# Altium schematic symbol library Strain_gauge_Interface.SCHLIB: 22 symbols
Pins are listed as number, name and electrical type; pins without a type are passive.

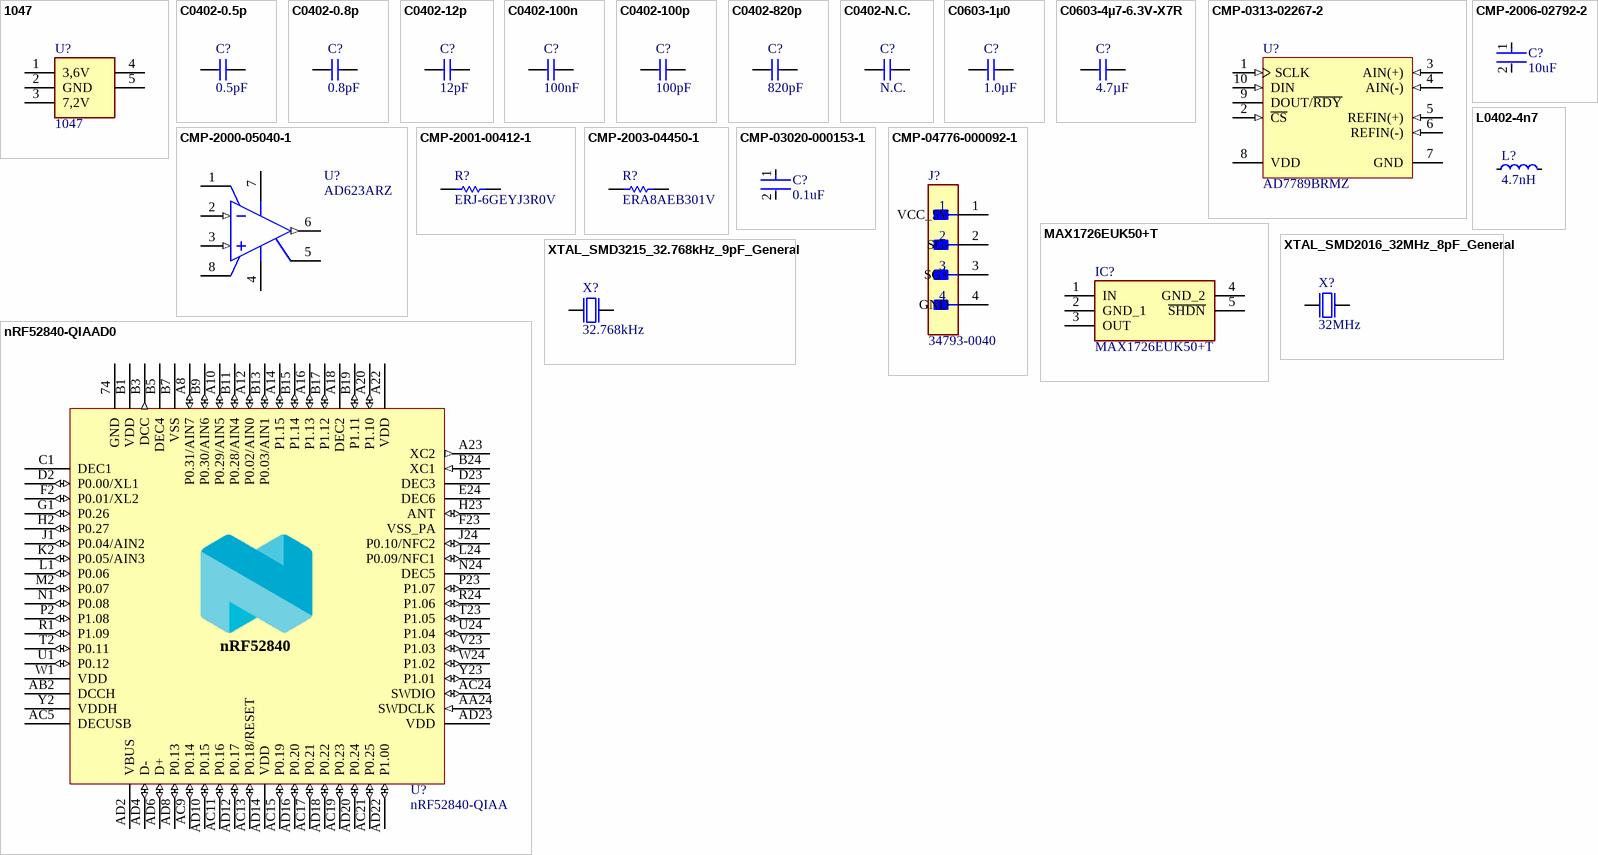
[diagram p0: symbols 1047 to XTAL_SMD3215_32.768kHz_9pF_General]

## 1047
designator U?
Undefined or Miscellaneous; Manufacturer_Name: Keystone Electronics; Description: KEYSTONE - 1047 - BATTERY HOLDER; Datasheet Link: https://www.keyelco.com/product.cfm/product_id/14061; Height: 14.85mm; Manufacturer_Part_Number: 1047; Mouser Part Number: 534-1047; Mouser Price/Stock: https://www.mouser.co.uk/ProductDetail/Keystone-Electronics/1047?qs=up89fPMRNqBQruBm7zqCRQ%3D%3D
footprint 1047
pins: 1 3,6V, 2 GND, 3 7,2V, 4 Gnd, 5 Gnd

## C0402-0.5p
designator C?, comment 0.5pF
Capacitor, NP0, ±10%; Part Number: C0402-0.5p; Note: 50V; LatestRevisionDate: 2017-02-23; Pin Count: 2; Publisher: Nordic Semiconductor; Published: 2009-05-08; Value: 0.5pF; Footprint Doc: 0402
footprint CAPC1005X04L
pins: 1, 2

## C0402-0.8p
designator C?, comment 0.8pF
Capacitor, NP0, ±10%; Part Number: C0402-0.8p; Note: 50V; LatestRevisionDate: 2012-11-21; Pin Count: 2; Publisher: Nordic Semiconductor; Published: 2009-05-08; Value: 0.8pF; Footprint Doc: 0402
footprint CAPC1005X04L
pins: 1, 2

## C0402-12p
designator C?, comment 12pF
Capacitor, NP0, ±2%; Part Number: C0402-12p; Note: 50V; LatestRevisionDate: 2011-05-11; Pin Count: 2; Publisher: Nordic Semiconductor; Published: 2009-05-08; Value: 12pF; Footprint Doc: 0402
footprint CAPC1005X04L
pins: 1, 2

## C0402-100n
designator C?, comment 100nF
Capacitor, X7R, ±10%; Part Number: C0402-100n; Note: 16V; LatestRevisionDate: 2009-11-23; Pin Count: 2; Publisher: Nordic Semiconductor; Published: 2009-05-08; Value: 100nF; Footprint Doc: 0402
footprint CAPC1005X04L
pins: 1, 2

## C0402-100p
designator C?, comment 100pF
Capacitor, NP0, ±5%; Part Number: C0402-100p; Note: 50V; LatestRevisionDate: 2009-05-08; Pin Count: 2; Publisher: Nordic Semiconductor; Published: 2009-05-08; Value: 100pF; Footprint Doc: 0402
footprint CAPC1005X04L
pins: 1, 2

## C0402-820p
designator C?, comment 820pF
Capacitor, NP0, ±5%; Part Number: C0402-820p; Note: 50V; LatestRevisionDate: 2009-05-08; Pin Count: 2; Publisher: Nordic Semiconductor; Published: 2009-05-08; Value: 820pF; Footprint Doc: 0402
footprint CAPC1005X04L
pins: 1, 2

## C0402-N.C.
designator C?, comment N.C.
Not mounted; Part Number: C0402-N.C.; Assembly: Not mounted; LatestRevisionDate: 2009-05-08; Pin Count: 2; Publisher: Nordic Semiconductor; Published: 2009-05-08; Value: N.C.; Footprint Doc: 0402
footprint CAPC1005X04L
pins: 1, 2

## C0603-1µ0
designator C?, comment 1.0µF
Capacitor, X7R, ±10%; Part Number: C0603-1µ0; Note: 16V; LatestRevisionDate: 2013-06-05; Pin Count: 2; Publisher: Nordic Semiconductor; Published: 2009-05-08; Value: 1.0µF; Footprint Doc: 0603
footprint CAPC1608X06L
pins: 1, 2

## C0603-4µ7-6.3V-X7R
designator C?, comment 4.7µF
Capacitor, X7R, ±10%; Part Number: C0603-4µ7-6.3V-X7R; Note: 6.3V; LatestRevisionDate: 2015-06-10; Pin Count: 2; Publisher: Nordic Semiconductor; Published: 2015-06-10; Value: 4.7µF; Footprint Doc: 0603
footprint CAPC1608X06L
pins: 1, 2

## CMP-0313-02267-2
designator U?, comment AD7789BRMZ
Single 24-Bit Low Power Sigma-Delta Analog-to-Digital Converter with Serial, SPI Interface, 16.6SPS, -40 to +105 degC, RM-10, Pb-Free, Tube; Generic Part Number: AD7789; Manufacturer: Analog Devices; Manufacturer Part Number: 46999-0353; Channels: 1; Interface: Ser, SPI; Throughput Rate (SPS): 16.6; Resolution (Bits): 24; Gender: Male; Number of Contacts: 4; Pitch: 3.68mm; Glow Wire Compliant: Compliant; ComponentLink1Description: Manufacturer URL; ComponentLink3Description: Package Specification; RoHS: Y; ComponentLink4URL: http://www.analog.com/en/analog-to-digital-converters/ad-converters/ad7789/products/product.html; PartNumber: AD7789BRMZ; ComponentLink1URL: http://www.analog.com/en/index.html; ComponentLink2URL: http://www.analog.com/static/imported-files/data_sheets/AD7788_7789.pdf; PackageDescription: 10-Lead Mini Small Outline Package [MSOP]; PackageReference: RM-10; ComponentLink4Description: Product URL; DatasheetVersion: Rev.B; Mounting Technology: Surface Mount; ComponentLink2Description: Datasheet; PackageVersion: May-2005; ComponentLink3URL: http://www.analog.com/static/imported-files/packages/PKG_PDF/MSOP%28RM%29/RM_10.pdf; Packing: Tube; Supplier 1: Digi-Key; Category: Connectors; Stock 1: 6500; Pricing 1: 1=0,85000, 10=0,70300, 100=0,58600, 1000=0,46880, 2500=0,42485 (USD); Mount: Cable; Housing Material: Nylon; Housing Color: Natural; Min Operating Temperature: -40°C; Max Operating Temperature: 105°C; Orientation: Straight; Length: 18.6mm; REACH SVHC: No SVHC; ComponentLink5URL: https://datasheet.ciiva.com/30086/050291758-sd-30086280.pdf?src-supplier=Onlinecomponents.com; ComponentLink5Description: https://datasheet.ciiva.com/30086/050291758-sd-30086280.pdf?src-supplier=Onlinecomponents.com; Manufacturer Part Number: AD7789BRMZ
footprint RM-10_M (TSSOP, 10-Leads, Body 3x3mm, Pitch 0.5mm, IPC Low Density)
footprint RM-10_N (TSSOP, 10-Leads, Body 3x3mm, Pitch 0.5mm, IPC Medium Density)
footprint RM-10_L (TSSOP, 10-Leads, Body 3x3mm, Pitch 0.5mm, IPC High Density)
pins: 1 SCLK (in) "Serial Clock Input for Data Transfers to and from the ADC. The SCLK has a Schmitt-triggered input, making the interface suitable for opto-isolated applications. The serial clock can be continuous, with all data transmitted (See Datasheet)", 2 ~{CS} (in) "Chip Select Input. This is an active low logic input used to select the ADC. C\S\ can be used to select the ADC in systems with more than one device on the serial bus or as a frame synchronization signal in communicating (See Datasheet)", 3 AIN(+) (in) "Analog Input. AIN(+) is the positive terminal of the fully differential analog input.", 4 AIN(-) (in) "Analog Input. AIN(-) is the negative terminal of the fully differential analog input.", 5 REFIN(+) (in) "Positive Reference Input. REFIN(+) can lie anywhere between VDD and GND + 0.1 V. The nominal reference voltage (REFIN(+) - REFIN(-)) is 2.5 V, but the part functions with a reference from 0.1 V to VDD.", 6 REFIN(-) (in) "Negative Reference Input. This reference input can lie anywhere between GND and VDD - 0.1 V.", 7 GND (power) "Ground Reference Point.", 8 VDD (power) "Supply Voltage. 3 V or 5 V nominal.", 9 DOUT/~{RDY} (hiz) "The DOUT/R\D\Y\ falling edge can be used as an interrupt to a processor, indicating that valid data is available. With an external serial clock, the data can be read using the DOUT/R\D\Y\ pin. With C\S\ low, the data/control (See Datasheet)", 10 DIN (in) "Serial Data Input to the Input Shift Register on the ADC. Data in this shift register is transferred to the control registers within the ADC; the register selection bits of the communications register identify the (See Datasheet)"

## CMP-2000-05040-1
designator U?, comment AD623ARZ
Single-Supply, Rail-to-Rail, Low Cost Instrumentation Amplifier, 800 KHz, -40 to 85 degC, 8-Pin SOIC, RoHS, Tube; Manufacturer: Analog Devices; EDA / CAD Models: DownloadfromAcceleratedDesigns; PCN Design/Specification: AD623PolymideThickness02/Oct/2013AD623PolymideThickness15/Oct/2013; -3db Bandwidth: 800kHz; Voltage - Supply, Single/Dual (±): 2.7V~12V,±2.5V~6V; Current - Input Bias: 17nA; Voltage - Input Offset: 25µV; Slew Rate: 0.3V/µs; Current - Supply: 375µA; Mfg Application Notes: Electrocardiogram(ECG)Solutions; Number of Circuits: 1; Product Training Modules: InstrumentationAmplifiersPerformanceCommonPhotodiodeOp-AmpCircuitProblemsandSolutionsIndirectCurrentFeedbackInstrumentationAmplifierApplicationsGuide; Manufacturer URL: http://www.analog.com/; Packaging: Tube; Mounting Type: SurfaceMount; Output Type: Rail-to-Rail; Gain Bandwidth Product: -; Datasheet URL: https://datasheet.ciiva.com/20167/82-1224-20167284.pdf; Current - Output / Channel: -; Standard Package: 98; Supplier Device Package: 8-SOIC; Amplifier Type: Instrumentation; Datasheet Version: Rev. D, 07/2008; Family: Linear-Amplifiers-Instrumentation,OPAmps,BufferAmps; Online Catalog: Instrumentation; Operating Temperature: -40degC~85degC; Category: IntegratedCircuits(ICs); Package / Case: 8-SOIC(0.154",3.90mmWidth); Series: -; Manufacturer Part Number: AD623ARZ
footprint ADI-AD623ARZ-8_M (SOIC, 8-Leads, Body 5x4mm, Pitch 1.27mm, IPC Low Density)
footprint ADI-AD623ARZ-8_N (SOIC, 8-Leads, Body 5x4mm, Pitch 1.27mm, IPC Medium Density)
footprint ADI-AD623ARZ-8_L (SOIC, 8-Leads, Body 5x4mm, Pitch 1.27mm, IPC High Density)
pins: 1 -RG, 2 -IN (in), 3 +IN (in), 4 -VS (power), 5 REF (power), 6 OUTPUT (out), 7 +VS (power), 8 +RG

## CMP-2001-00412-1
designator R?, comment ERJ-6GEYJ3R0V
Manufacturer: Panasonic; Part Number: ERJ-6GEYJ3R0V; Manufacturer Part Number: ERJ-6GEYJ3R0V
footprint RESC2013X70X40LL20T20 (Chip Resistor, 2-Leads, Body 2.00x1.25mm, IPC High Density)
footprint RESC2013X70X40ML20T20 (Chip Resistor, 2-Leads, Body 2.00x1.25mm, IPC Low Density)
footprint RESC2013X70X40NL20T20 (Chip Resistor, 2-Leads, Body 2.00x1.25mm, IPC Medium Density)
pins: 1, 2
1 alternate drawing of the same symbol

## CMP-2003-04450-1
designator R?, comment ERA8AEB301V
Manufacturer: Panasonic; Manufacturer Part Number: ERA-8AEB301V; Part Number: ERA8AEB301V
footprint RESC3216X70X50NL20T25 (Chip Resistor, 2-Leads, Body 3.20x1.60mm, IPC Medium Density)
footprint RESC3216X70X50ML20T25 (Chip Resistor, 2-Leads, Body 3.20x1.60mm, IPC Low Density)
footprint RESC3216X70X50LL20T25 (Chip Resistor, 2-Leads, Body 3.20x1.60mm, IPC High Density)
pins: 1, 2
1 alternate drawing of the same symbol

## CMP-2006-02792-2
designator C?, comment 10uF
Chip Multilayer Ceramic Capacitors for General Purpose, 0603, 10uF, X5R, 15%, 20%, 6.3V; Manufacturer: Murata; Manufacturer Part Number: GRM188R60J106ME47D; Packaging: Tape and Reel; Voltage Rating (DC): 6.3V; Width: 0.031inch; Termination: SMD/SMT; Dielectric: X5R; Package Quantity: 4000; Voltage Rating: 6.3V; Capacitance: 10uF; Case/Package: 0603; Min Operating Temperature: -55°C; Voltage: 6.3V; Length: 1.6mm; Thickness: 0.035inch; Lead Free: Lead Free; Depth: 0.8mm; Case Code (Imperial): 0603; Max Operating Temperature: 85°C; Material: Ceramic; Height: 0.8mm; Tolerance: 20%; Mount: Surface Mount; REACH SVHC: No SVHC; Radiation Hardening: No; Case Code (Metric): 1608
footprint FP-GRM188-0_1-e0_2_0_55-IPC_A
footprint FP-GRM188-0_1-e0_2_0_55-IPC_C
footprint FP-GRM188-0_1-e0_2_0_55-MFG
footprint FP-GRM188-0_1-e0_2_0_55-IPC_B
pins: 1, 2

## CMP-03020-000153-1
designator C?, comment 0.1uF
CAP CER 0.1UF 100V X7R 1206; Manufacturer: KEMET; Manufacturer Part Number: C1206C104K1RACTU; Value: 0.10 μF; Tolerance: 0.1; Description: C1206 0.10 μF X7R 10.00% 100 V; Material: Ceramic; Temperature Coefficient: 15%; Automotive Grade: Grade 0; Voltage Rating: 100 V; Automotive: Yes; Ipc Land Pattern Name: CAPC320160X78; Device Class L1: Passive Components; ComponentLink2Description: Datasheet; Temperature Range Low: -55°C; Category: Cap; Octopart: https://octopart.com/c1206c104k1ractu-kemet-89521; Height: 0.88mm; Lead Free: Yes; Digikey Description: CAP CER 0.1UF 100V X7R 1206; Mouser Description: CAP CER 0.1UF 100V X7R 1206; Device Class L3: Ceramic Capacitors; Device Class L2: Capacitors; ComponentLink2URL: https://content.kemet.com/datasheets/KEM_C1007_X8R_ULTRA_150C_SMD.pdf; Temperature Range High: +150°C; Temperature Characteristic: X7R; RoHS: TRUE; Capacitance: 0.10 μF; Package: C1206C-EB; Temperature: -55°C to +150°C
footprint FP-C1206C-EB-MFG
footprint FP-C1206C-EB-IPC_C
footprint FP-C1206C-EB-IPC_B
footprint FP-C1206C-EB-IPC_A
pins: 1, 2

## CMP-04776-000092-1
designator J?, comment 34793-0040
CONN HEADER R/A 4POS 2MM; Manufacturer: Molex; Conn Orientation: Right Angle; Conn Gender: Male; Standoff Height: 0.32mm; Description: Wire-To-Board Connector, Right Angle, Black, Mini50 34793 Series, Through Hole, Header, 4 Contacts; Voltage Rating: 500V; Current Rating: 4A; Number Of Contacts: 4; Device Class L2: Headers and Wire Housings; Number Of Rows: 1; Device Class L3: unset; Device Class L1: Connectors; Manufacturer Part Number: 34793-0040; Category: Conn; Octopart: https://octopart.com/34793-0040-molex-22881898; ComponentLink2URL: http://www.molex.com/webdocs/datasheets/pdf/en-us/0347930040_PCB_HEADERS.pdf; Temperature Range Low: -40°C; Package: 34793-0040; RoHS: TRUE; Mouser Description: Mini50™ Unsealed, Single Row, Right-Angle Header, 4 Circuit, Polarization Option A, Black, Tray; Temperature Range High: +105°C; Pitch: 2mm; Digikey Description: CONN HEADER R/A 4POS 2MM; Lead Free: Yes; Footprint Url: https://www.molex.com/pdm_docs/sd/347930040_sd.pdf; Contact Material: Tin,Nickel; Temperature: -40°C to +105°C; Height: 10.02mm; ComponentLink2Description: Datasheet; Automotive: No
footprint FP-34793-0040-MFG
pins: 1 VCC_5V, 2 SG-, 3 SG+, 4 GND

## L0402-4n7
designator L?, comment 4.7nH
High frequency chip inductor ±5%; Part Number: L0402-4n7; LatestRevisionDate: 2012-09-19; Pin Count: 2; Publisher: Nordic Semiconductor; Published: 2009-05-08; Value: 4.7nH; Note: High frequency chip inductor ±5%; Footprint Doc: 0402
footprint INDC1005X04L
pins: 1, 2

## MAX1726EUK50+T
designator IC?
Integrated Circuit; Manufacturer_Name: Maxim Integrated; Datasheet Link: http://componentsearchengine.com/Datasheets/1/MAX1726EUK50+T.pdf; Height: 1.45mm; Manufacturer_Part_Number: MAX1726EUK50+T; Mouser Part Number: 700-MAX1726EUK50T; Mouser Price/Stock: https://www.mouser.co.uk/ProductDetail/Maxim-Integrated/MAX1726EUK50%2bT?qs=Jw2w9zrI6w%252Bbrdx6zz2S%2FQ%3D%3D
footprint SOT95P280X145-5N
pins: 1 IN, 2 GND_1, 3 OUT, 4 GND_2, 5 ~{SHDN}

## nRF52840-QIAAD0
designator U?, comment nRF52840-QIAA
Multi-protocol Bluetooth Low Energy, IEEE 802.15.4, ANT and 2.4GHz proprietary system-on-chip; Part Number: nRF52840-QIAAD0; Manufacturer: Nordic Semiconductor; LatestRevisionDate: 2018-12-04; Pin Count: 73; Publisher: Nordic Semiconductor; Published: 2018-12-04; Value: nRF52840-QIAA; Note: *; Footprint Doc: AQFN-73; Manufacturer Part Number: nRF52840-QIAAD0
footprint AQFN50P700X700X85_HS-74N
pins: 74 GND (power), A8 P0.31/AIN7 (io), A10 P0.29/AIN5 (io), A12 P0.02/AIN0 (io), A14 P1.15 (io), A16 P1.13 (io), A18 DEC2 (power), A20 P1.10 (io), A22 VDD (power), A23 XC2 (out), AA24 SWDCLK (in), AB2 DCCH (power), AC5 DECUSB (power), AC9 P0.14 (io), AC11 P0.16 (io), AC13 P0.18/RESET (io), AC15 P0.19 (io), AC17 P0.21 (io), AC19 P0.23 (io), AC21 P0.25 (io), AC24 SWDIO (io), AD2 VBUS (power), AD4 D- (io), AD6 D+ (io), AD8 P0.13 (io), AD10 P0.15 (io), AD12 P0.17 (io), AD14 VDD (power), AD16 P0.20 (io), AD18 P0.22 (io), AD20 P0.24 (io), AD22 P1.00 (io), AD23 VDD (power), B1 VDD (power), B3 DCC (out), B5 DEC4 (power), B7 VSS (power), B9 P0.30/AIN6 (io), B11 P0.28/AIN4 (io), B13 P0.03/AIN1 (io), B15 P1.14 (io), B17 P1.12 (io), B19 P1.11 (io), B24 XC1 (in), C1 DEC1 (power), D2 P0.00/XL1 (io), D23 DEC3 (power), E24 DEC6 (power), F2 P0.01/XL2 (io), F23 VSS_PA (power), G1 P0.26 (io), H2 P0.27 (io), H23 ANT (io), J1 P0.04/AIN2 (io), J24 P0.10/NFC2 (io), K2 P0.05/AIN3 (io), L1 P0.06 (io), L24 P0.09/NFC1 (io), M2 P0.07 (io), N1 P0.08 (io), N24 DEC5 (power), P2 P1.08 (io), P23 P1.07 (io), R1 P1.09 (io), R24 P1.06 (io), T2 P0.11 (io), T23 P1.05 (io), U1 P0.12 (io), U24 P1.04 (io), V23 P1.03 (io), W1 VDD (power), W24 P1.02 (io), Y2 VDDH (power), Y23 P1.01 (io)
text: nRF52840

## XTAL_SMD2016_32MHz_8pF_General
designator X?, comment 32MHz
XTAL SMD 2016, 32MHz, Cl=8pF, Total Tol: ±40ppm; Part Number: XTAL_SMD2016_32MHz_8pF_General; LatestRevisionDate: 2016-08-19; Pin Count: 4; Publisher: Nordic Semiconductor; Published: 2016-08-19; Value: 32MHz; Footprint Doc: XTAL_2016
footprint BT-XTAL_2016
pins: 1 inp, 2 GND hidden to GND, 3 out, 4 GND hidden to GND

## XTAL_SMD3215_32.768kHz_9pF_General
designator X?, comment 32.768kHz
XTAL SMD 3215, 32.768kHz, Cl=9pF, Total Tol: ±50ppm; Part Number: XTAL_SMD3215_32.768kHz_9pF_General; LatestRevisionDate: 2016-08-19; Pin Count: 2; Publisher: Nordic Semiconductor; Published: 2016-08-19; Value: 32.768kHz; Footprint Doc: XTAL_3215
footprint XTAL_3215
pins: 1 inp, 2 out